# Altium schematic symbol library TUSB2046B.SchLib: 1 symbol
Pins are listed as number, name and electrical type; pins without a type are passive.

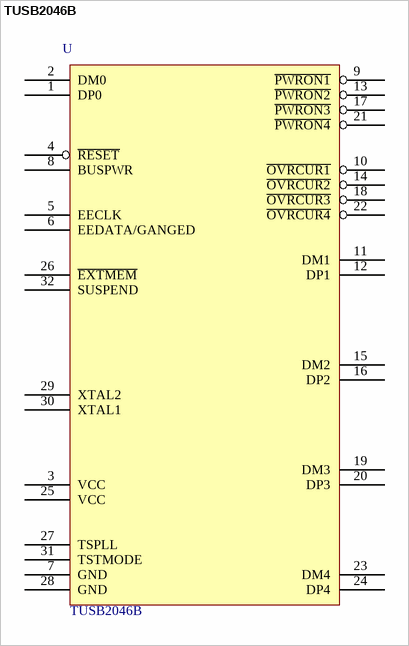
[diagram p0: symbol TUSB2046B]

## TUSB2046B
designator U  value TUSB2046B  (hidden comment: *)
Manufacturer Code: TUSB2046BIVFR; Manufacturer: Texas Instruments; Farnell Code: 2335698; Unit Price: 2,28 €
footprint LQFP-32 (Footprint not found)
pins: 1 DP0, 2 DM0, 3 VCC, 4 ~{RESET}, 5 EECLK, 6 EEDATA/GANGED, 7 GND, 8 BUSPWR, 9 ~{PWRON1}, 10 ~{OVRCUR1}, 11 DM1, 12 DP1, 13 ~{PWRON2}, 14 ~{OVRCUR2}, 15 DM2, 16 DP2, 17 ~{PWRON3}, 18 ~{OVRCUR3}, 19 DM3, 20 DP3, 21 ~{PWRON4}, 22 ~{OVRCUR4}, 23 DM4, 24 DP4, 25 VCC, 26 ~{EXTMEM}, 27 TSPLL, 28 GND, 29 XTAL2, 30 XTAL1, 31 TSTMODE, 32 SUSPEND